# Altium integrated library GRM155R71E104KE14J.IntLib: 1 symbol
Pins are listed as number, name and electrical type; pins without a type are passive.

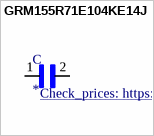
[diagram p0: symbol GRM155R71E104KE14J]

## GRM155R71E104KE14J
designator C
SMD capacitor X7R(EIA) with capacitance 0.10uF Tol.10%. Rated voltage 25Vdc 125C; MF: Murata Electronics; MP: GRM155R71E104KE14J; Value: *; SnapEDA_Link: https://www.snapeda.com/parts/GRM155R71E104KE14J/Murata%20Electronics%20North%20America/view-part/1797567/?ref=snap; Arrow_Electronics-Purchase-URL: https://snapeda.com/shop?store=Arrow+Electronics&id=1797567; Mouser-Purchase-URL: https://snapeda.com/shop?store=Mouser&id=1797567; Package: 1005 Taiyo Yuden; Digi-Key_Part_Number: 490-14603-1-ND; Check_prices: https://www.snapeda.com/parts/GRM155R71E104KE14J/Murata%20Electronics%20North%20America/view-part/1797567/?ref=eda
footprint CAPC1005X55N
pins: 1, 2